# Altium footprint library aistlab.PcbLib: 39 footprints (part 2 of 3)
Each footprint in its own frame and in the unit in brackets; x right, y up, seen from the top. Pads: shape width x height; smd on the part's side, far side on the other; paste and mask are expansions set on the pad; w line width, h text height; cw(c..) or ccw(c..) is an arc to the next point about the centre after c.
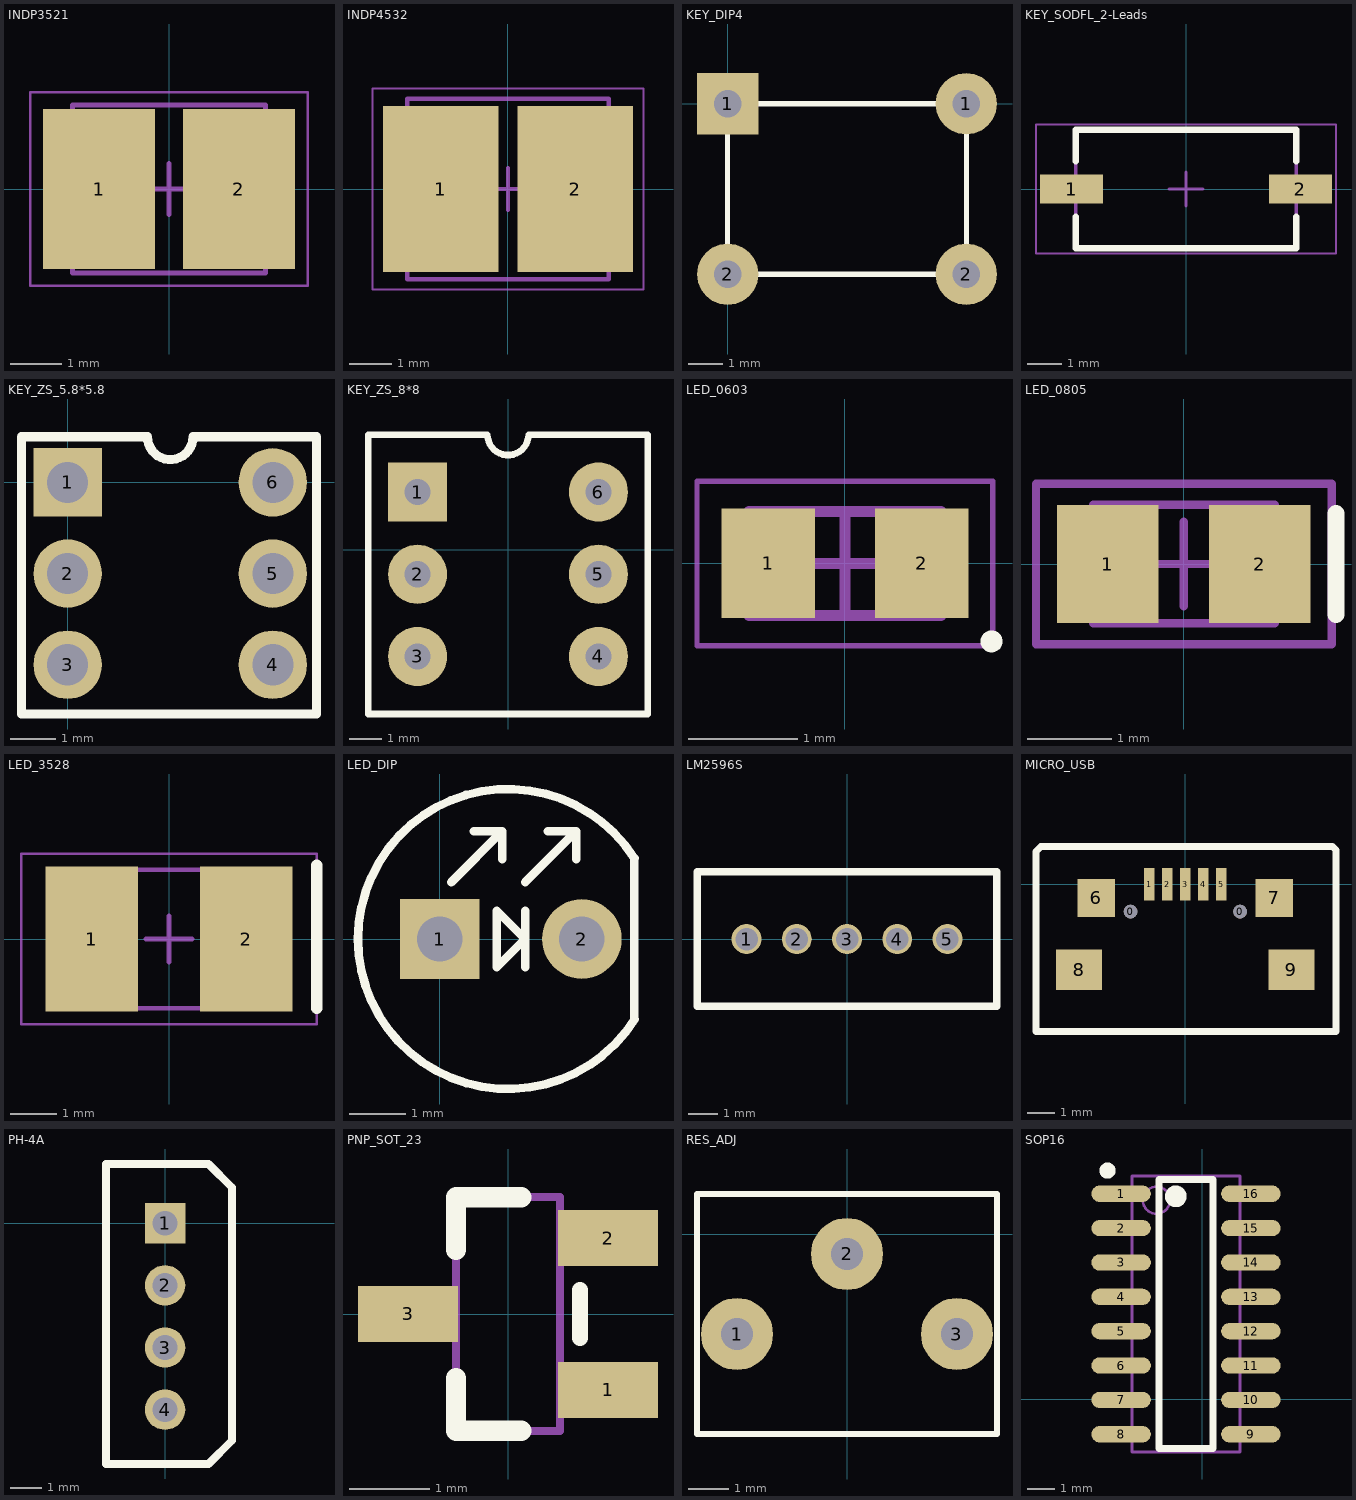
[diagram p1: the footprints below, top view; thin cyan lines are the x and y axes]

## INDP3521 [mm] "Precision Wire Wound Inductor, 2-Leads, Body 3.50x3.00mm, IPC Medium Density"
height 2.1
pads (2):
  rect 2.2x3.15 smd: 1(-1.375,0) 2(1.375,0)
Mechanical 13:
  lines w0.1: -1.9,-1.65 1.9,-1.65 1.9,1.65 -1.9,1.65 -1.9,-1.65
Mechanical 15:
  lines w0.05: -2.725,-1.9 2.725,-1.9 2.725,1.9 -2.725,1.9 -2.725,-1.9
  lines w0.1: -0.5,0 0.5,0 ; 0,-0.5 0,0.5
3D body "INDP3530X21N.step": height 2.2, standoff 0, extent -1.85,-1.5 1.85,1.5

## INDP4532 [mm] "Precision Wire Wound Inductor, 2-Leads, Body 4.50x4.00mm, IPC Medium Density 电感4532封装"
height 3
pads (2):
  rect 2.75x3.95 smd: 1(-1.6,0) 2(1.6,0)
Mechanical 13:
  lines w0.1: -2.4,-2.15 2.4,-2.15 2.4,2.15 -2.4,2.15 -2.4,-2.15
Mechanical 15:
  lines w0.05: -3.225,-2.4 3.225,-2.4 3.225,2.4 -3.225,2.4 -3.225,-2.4
  lines w0.1: -0.5,0 0.5,0 ; 0,-0.5 0,0.5
3D body "INDP4540X30N.step": height 3.1, standoff 0, extent -2.35,-2 2.35,2

## KEY_DIP4 [mm]
pads (4):
  rect 1.8x1.8 hole 0.8: 1(0,0)
  round 1.8 hole 0.8: 1(7,0) 2(0,-5) 2(7,-5)
Top Overlay:
  lines w0.15: 0,-5 7,-5 7,0 0,0 0,-5
3D body "User Library-TPxxxx (Switch).STEP": height 5.9, standoff -2.59, extent -0.56,-5.461 7.418,0.539

## KEY_SODFL_2-Leads [mm] "SODFL, 2-Leads, Body 3.25x8.00mm, IPC Medium Density"
height 2
pads (2):
  rect 1.85x0.85 smd: 1(-3.375,0) 2(3.375,0)
Top Overlay:
  lines w0.2: -3.25,-0.825 -3.25,-1.75 3.25,-1.75 3.25,-0.825 ; -3.25,0.825 -3.25,1.75 3.25,1.75 3.25,0.825
Mechanical 13:
  lines w0.1: -3.25,-1.75 3.25,-1.75 3.25,1.75 -3.25,1.75 -3.25,-1.75
Mechanical 15:
  lines w0.05: -4.425,-1.9 4.425,-1.9 4.425,1.9 -4.425,1.9 -4.425,-1.9
  lines w0.1: -0.5,0 0.5,0 ; 0,-0.5 0,0.5
3D body "User Library-SWT-39.step": height 2.5, standoff 0, extent -4,-1.795 4,1.905

## KEY_ZS_5.8*5.8 [mm]
pads (6):
  rect 1.5x1.5 hole 0.9: 1(0,0)
  round 1.5 hole 0.9: 2(0,-2) 3(0,-4) 4(4.5,-4) 5(4.5,-2) 6(4.5,0)
Top Overlay:
  lines w0.2: -1.016,-5.08 5.461,-5.08 5.461,1 2.75,1 cw(c2.25,1) 1.75,1 -1.016,1 -1.016,-5.08

## KEY_ZS_8*8 [mm]
pads (6):
  rect 1.8x1.8 hole 0.8: 1(-2.75,1.75)
  round 1.8 hole 0.8: 2(-2.75,-0.75) 3(-2.75,-3.25) 4(2.75,-3.25) 5(2.75,-0.75) 6(2.75,1.75)
Top Overlay:
  lines w0.2: -4.25,-5 -4.25,3.5 -0.625,3.5 ccw(c0,3.5) 0.625,3.5 4.25,3.5 4.25,-5 -4.25,-5
3D body "User Library-button with fixation.step": height 13, standoff -4, extent -3.5,-4.262 3.5,2.738

## LED_0603 [mm] "Chip Diode, 2-Leads, Body 1.60x0.80mm, IPC Medium Density"
height 0.6
pads (2):
  rect 0.85x1 smd: 1(-0.7,0) 2(0.7,0)
Top Overlay:
  circle w0.1: c1.337,-0.712 r0.05
Mechanical 13:
  lines w0.1: -0.875,-0.475 -0.875,0.475 0.875,0.475 0.875,-0.475 -0.875,-0.475
Mechanical 15:
  lines w0.05: -1.35,-0.75 -1.35,0.75 1.35,0.75 1.35,-0.75 -1.35,-0.75
  lines w0.1: -0.475,0 0.475,0 ; 0,-0.475 0,0.475
3D body "DIOC1608X06N.step": height 0.6, standoff 0, extent -0.875,-0.475 0.875,0.475

## LED_0805 [mm] "Chip LED  Body 2.0x1.2mm, IPC Medium Density"
height 0.7
pads (2):
  rect 1.2x1.4 smd: 1(-0.9,0) 2(0.9,0)
Top Overlay:
  lines w0.2: 1.8,-0.6 1.8,0.6
Mechanical 13:
  lines w0.1: -1.075,-0.7 -1.075,0.7 1.075,0.7 1.075,-0.7 -1.075,-0.7
Mechanical 15:
  lines w0.1: -0.5,0 0.5,0 ; 0,-0.5 0,0.5 ; -1.75,-0.95 -1.75,0.95 1.75,0.95 1.75,-0.95 -1.75,-0.95
3D body: height 0.7, standoff 0, extent -1.075,-0.7 1.075,0.7

## LED_3528 [mm] "Chip Diode, 2-Leads, Body 5.00x3.00mm, IPC Medium Density"
height 2
pads (2):
  rect 2x3.15 smd: 1(-1.675,0) 2(1.675,0)
Top Overlay:
  lines w0.254: 3.2,-1.5 3.2,1.6
Mechanical 13:
  lines w0.1: -2.5,-1.5 -2.5,1.5 2.5,1.5 2.5,-1.5 -2.5,-1.5
Mechanical 15:
  lines w0.05: -3.2,-1.85 -3.2,1.85 3.2,1.85 3.2,-1.85 -3.2,-1.85
  lines w0.1: -0.5,0 0.5,0 ; 0,-0.5 0,0.5
3D body: height 2, standoff 0, extent -0.5,-1.5 0.5,1.5
3D body: height 2, standoff 0, extent -2.5,-1.5 -0.5,1.5
3D body: height 2, standoff 0, extent 0.5,-1.5 2.5,1.5

## LED_DIP [mm]
pads (2):
  rect 1.4x1.4 hole 0.8: 1(0,0)
  round 1.4 hole 0.8: 2(2.5,0)
Top Overlay:
  lines w0.15: 0.2,1 1.1,1.9 ; 0.6,1.9 1.1,1.9 ; 1.1,1.4 1.1,1.9 ; 1.5,-0.5 1.5,0.5 ; 1.5,1 2.4,1.9 ; 1.9,1.9 2.4,1.9 ; 2.4,1.4 2.4,1.9 ; 3.425,-1.422 3.425,1.419 ; 3.427,1.419 ccw(c1.2,0) 3.429,-1.415 ; 1,-0.5 1.5,0 1,0.5 1,-0.5
3D body "LED5_BLUE.STEP": height 8.6, standoff -2, extent -1.707,-2.723 3.643,2.977

## LM2596S [mil] "3.3v"
pads (5):
  round 40 hole 30: 1(-134,0) 2(-67,0) 3(0,0) 4(67,0) 5(134,0)
Top Overlay:
  lines w10: -200,-90 -200,90 200,90 200,-90 -200,-90

## MICRO_USB [mm]
height 3
pads (11):
  round 0.5 hole 0.5: 0(-2.032,-1.016) 0(2.032,-1.016)
  rect 0.4x1.2 smd: 1(-1.333,0) 2(-0.667,0) 3(0,0) 4(0.667,0) 5(1.333,0)
  rect 1.4x1.4 smd: 6(-3.302,-0.508) 7(3.302,-0.508)
  rect 1.7x1.5 smd: 8(-3.937,-3.175) 9(3.937,-3.175)
Top Overlay:
  lines w0.254: -5.537,-5.461 -5.537,1.219 -5.359,1.397 -5.334,1.397 -4.318,1.397 5.461,1.397 5.588,1.27 5.588,-5.461 4.318,-5.461 -5.537,-5.461
3D body "48284.stp": height 2.71, standoff -0.23, extent -4.4,-5.715 4.4,0.016

## PH-4A [mm]
pads (4):
  rect 1.3x1.3 hole 0.8: 1(0,0)
  round 1.3 hole 0.8: 2(0,-2) 3(0,-4) 4(0,-6)
Top Overlay:
  lines w0.254: -1.905,-7.747 -1.905,1.905 1.397,1.905 2.159,1.143 2.159,-6.985 1.397,-7.747 -1.905,-7.747

## PNP_SOT_23 [mm]
pads (3):
  rect 1.25x0.7 smd: 1(1.25,-0.95) 2(1.25,0.95) 3(-1.25,0)
Top Overlay:
  lines w0.2: 0.9,-0.3 0.9,0.3
  lines w0.254: -0.65,-0.8 -0.65,-1.46 0.165,-1.46 ; 0.165,1.46 -0.65,1.46 ; -0.65,0.8 -0.65,1.46 ; -0.65,0.8 -0.65,1.46 ; -0.65,0.8 -0.65,1.46
Mechanical 13:
  lines w0.1: -0.65,-1.46 -0.65,1.46 ; -0.65,-1.46 0.65,-1.46 ; -0.65,-1.46 0.65,-1.46 ; -0.65,-1.46 -0.65,1.46 ; -0.65,-1.46 0.65,-1.46 ; -0.65,-1.46 -0.65,1.46 ; -0.65,1.46 0.65,1.46 ; -0.65,1.46 0.65,1.46 ; -0.65,1.46 0.65,1.46 ; 0.65,-1.46 0.65,1.46 ; 0.65,-1.46 0.65,1.46 ; 0.65,-1.46 0.65,1.46
3D body "SOT-23.step": height 1.3, standoff 0, extent -1.5,-1.5 1.5,1.5

## RES_ADJ [mm]
pads (3):
  round 1.8 hole 0.8: 1(-2.75,-2.5) 2(0,-0.5) 3(2.75,-2.5)
Top Overlay:
  lines w0.15: -3.75,-5 -3.75,1 3.75,1 3.75,-5 -3.75,-5

## SOP16 [mm] "CH340G"
height 3
pads (16):
  oval 2.2x0.6 smd: 1(-3,7.595) 2(-3,6.325) 3(-3,5.055) 4(-3,3.785) 5(-3,2.515) 6(-3,1.245) 7(-3,-0.025) 8(-3,-1.295) 9(1.8,-1.295) 10(1.8,-0.025) 11(1.8,1.245) 12(1.8,2.515) 13(1.8,3.785) 14(1.8,5.055) 15(1.8,6.325) 16(1.8,7.595)
Top Overlay:
  circle w0.3: c-3.5,8.45 r0.15
  circle w0.4: c-0.975,7.5 r0.2
  lines w0.254: -1.6,-1.825 -1.6,8.125 0.4,8.125 0.4,-1.825 -1.6,-1.825
Mechanical 13:
  circle w0.1: c-1.695,7.355 r0.5
  lines w0.1: -2.595,-1.955 -2.595,8.255 1.395,8.255 1.395,-1.955 -2.595,-1.955
3D body "User Library-SOIC-16-3.step": height 1.7, standoff 0, extent -3.683,-1.778 2.515,8.128